# Altium footprint library 1N5408.PcbLib: 1 footprints
Each footprint in its own frame and in the unit in brackets; x right, y up, seen from the top. Pads: shape width x height; smd on the part's side, far side on the other; paste and mask are expansions set on the pad; w line width, h text height; cw(c..) or ccw(c..) is an arc to the next point about the centre after c.
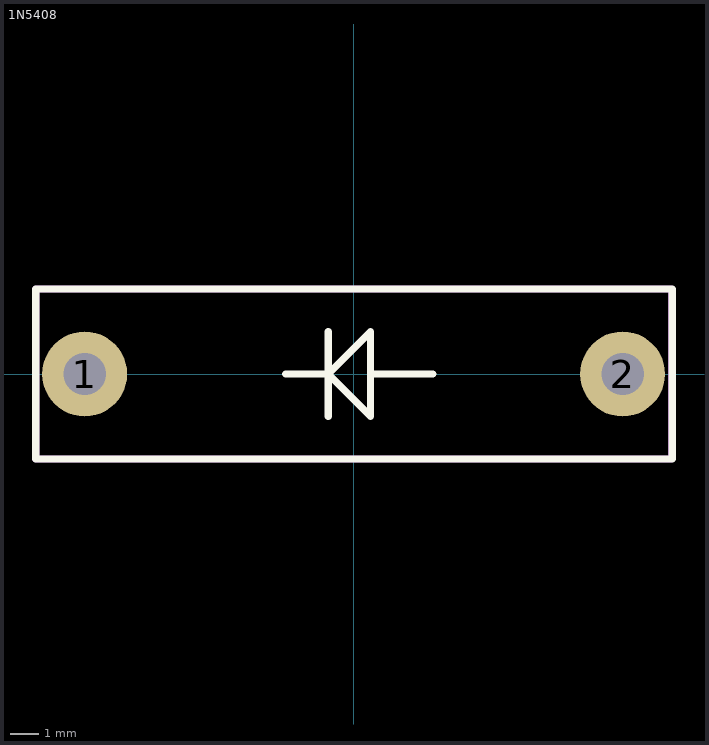
[diagram p0: the footprint, top view; thin cyan lines are the x and y axes]

## 1N5408 [mm]
pads (2):
  round 3 hole 1.5: 1(-9.5,0) 2(9.5,0)
Top Overlay:
  lines w0.254: -2.4,0 -0.9,0 ; -0.9,-1.5 -0.9,1.5 ; 0.6,0 2.8,0 ; -0.9,0 0.6,-1.5 0.6,1.5 -0.9,0 ; -11.225,-3 11.25,-3 11.25,3 -11.225,3 -11.225,-3
Top Assembly:
  lines w0.254: -11.225,-3 -11.225,3 11.225,3 11.225,-3 -11.225,-3
  text "'.Designator'" at 0,0 h0.7
3D body "User Library-DO-201ADDO-27.STEP": height 6.81, standoff -2.8, extent -10,-2.82 10.14,2.82